# EAGLE library part ROTARY_SWITCH (library ArcadeMachine)
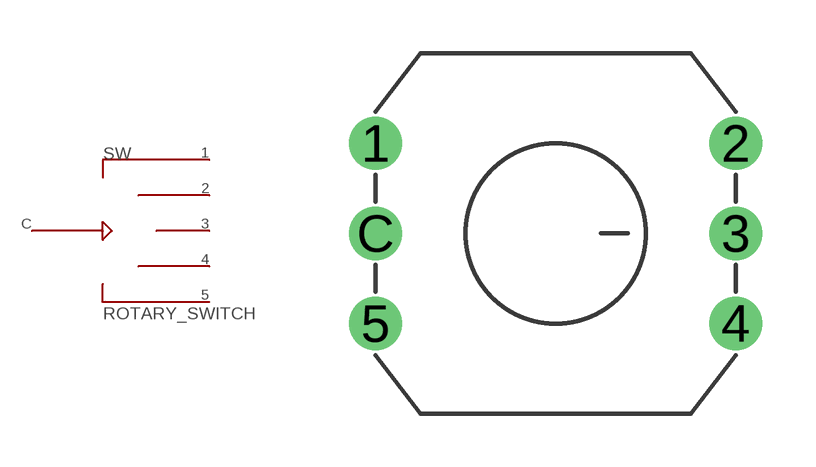
[diagram p1: symbol with the pads of ROTARY_SWITCH; footprint ROTARY_SWITCH]

Designator prefix SW

## ROTARY_SWITCH  [ROTARY_SWITCH]
1  1
2  2
3  3
4  4
5  5
C  C

## Footprint ROTARY_SWITCH (pad centres in mm)
drill 0.991: 1 -5.08,2.54; 2 5.08,2.54; 3 5.08,0; 4 5.08,-2.54; 5 -5.08,-2.54; C -5.08,0